# Altium schematic symbol library ANALOGDEVICES_LETUNOV.SchLib: 4 symbols
Pins are listed as number, name and electrical type; pins without a type are passive.

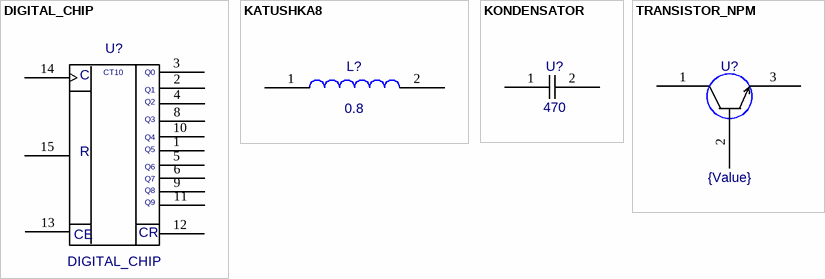
[diagram p0: symbols DIGITAL_CHIP to TRANSISTOR_NPM]

## DIGITAL_CHIP
designator U?
Value: *
footprint DIP-8
pins: 1, 2, 3, 4, 5, 6, 7 GND (power) hidden, 8, 9, 10, 11, 12, 13, 14, 15, 16 Vcc (power) hidden
text: C; CT10; Q0; Q1; Q2; Q3; Q4; Q5; R; Q6; Q7; Q8; Q9; CR; CE

## KATUSHKA8
designator L?  value 0.8  (hidden comment: *)
footprint L
pins: 1, 2

## KONDENSATOR
designator U?  value 470  (hidden comment: *)
footprint KM6A
pins: 1, 2

## TRANSISTOR_NPM
designator U?  value {Value}  (hidden comment: *)
footprint KT368
pins: 1, 2, 3